# Altium footprint library B6B-PH-K-S.PcbLib: 1 footprints
Each footprint in its own frame and in the unit in brackets; x right, y up, seen from the top. Pads: shape width x height; smd on the part's side, far side on the other; paste and mask are expansions set on the pad; w line width, h text height; cw(c..) or ccw(c..) is an arc to the next point about the centre after c.
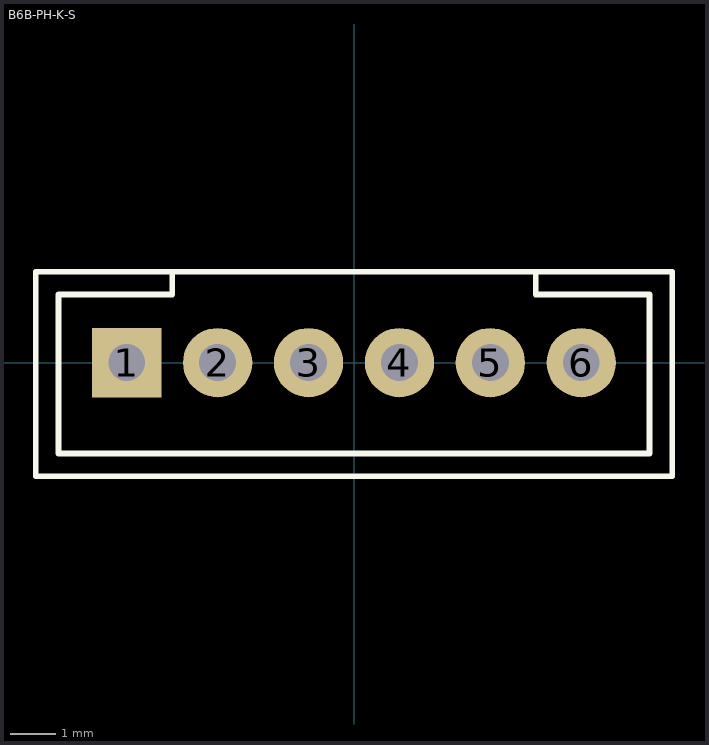
[diagram p0: the footprint, top view; thin cyan lines are the x and y axes]

## B6B-PH-K-S [mil] "PH Connector 2mm pitch, top entry"
height 236.22
pads (6):
  rect 60x60 hole 32: 1(-196.85,0)
  round 60 hole 32: 2(-118.11,0) 3(-39.37,0) 4(39.37,0) 5(118.11,0) 6(196.85,0)
Top Overlay:
  lines w5: -157.48,78.74 -157.48,59.06 -255.91,59.06 -255.91,-78.74 255.91,-78.74 255.91,59.06 157.48,59.06 157.48,78.74 ; -275.59,-98.43 275.59,-98.43 275.59,78.74 -275.59,78.74 -275.59,-98.43
3D body: height 236.22, standoff 0, extent -275.57,-98.41 275.57,78.72
3D body: height 39.37, standoff 0, extent -255.89,-78.72 255.89,78.72